# EAGLE library part 658561423040 (library WR-BTB)
WR-BTB Board to Board Characteristics Insulator flammability rating: UL94 V-0 Defined board to board distance from 5.00 mm up to 16.00 mm Available pin-counts: 64 pins (1.0 mm version) / 40, 80 or 100 pins (0.8 mm version) Contact plating: selective gold Operating temperature: -55 °C up to +85 °C Quality class: 30 mating cycles Contact resistance: 30 mΩ Working Voltage: 100 V (AC) UL approval: E323964 Applications Board-to-board connection for secure and fast data connections Defined PCB spacing In conjunction with SMT spacers or threaded spacers, a stable connection of stacked PCBs. <https://www.we-online.com/components/media/o790799v209%20WR-BTB_Gruppe.jpg> Details see: www.we-online.com/en/components/products/WR_BTB <www.we-online.com/catalog/WR_BTB/?utm_source=eagle_model&utm_medium=description_link&utm_campaign=eisos_eagle> Created by Ella 2025-05-14 2025(C) Würth Elektronik
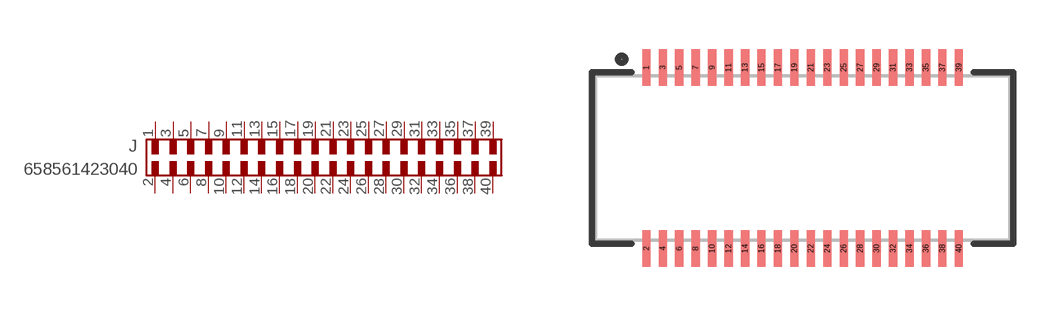
[diagram p8: symbol with the pads of 658561423040; footprint 658561423040]

Designator prefix J

## 658561423040 (DATASHEET-URL: https://www.we-online.com/redexpert/spec/658561423040?ae; GENDER: Plug; HEIGHT: 1.4mm; IR: 300mA; MOUNT: SMT; PACKAGING: Tape and Reel with Cap; PART-NUMBER: 658561423040; PINS: 40; PITCH: 0.5mm; TYPE: Vertical; VALUE: 658561423040)  [658561423040]
1  1  pas
2  2  pas
3  3  pas
4  4  pas
5  5  pas
6  6  pas
7  7  pas
8  8  pas
9  9  pas
10  10  pas
11  11  pas
12  12  pas
13  13  pas
14  14  pas
15  15  pas
16  16  pas
17  17  pas
18  18  pas
19  19  pas
20  20  pas
21  21  pas
22  22  pas
23  23  pas
24  24  pas
25  25  pas
26  26  pas
27  27  pas
28  28  pas
29  29  pas
30  30  pas
31  31  pas
32  32  pas
33  33  pas
34  34  pas
35  35  pas
36  36  pas
37  37  pas
38  38  pas
39  39  pas
40  40  pas

## Footprint 658561423040 (pad centres in mm)
WR-BTB Board to Board Pitch: 0.5mm, Plug, 40pins, SMT Height = 1.4mm
smd 0.25 x 1.1: 1 -4.75,2.75; 2 -4.75,-2.75; 3 -4.25,2.75; 4 -4.25,-2.75; 5 -3.75,2.75; 6 -3.75,-2.75; 7 -3.25,2.75; 8 -3.25,-2.75; 9 -2.75,2.75; 10 -2.75,-2.75; 11 -2.25,2.75; 12 -2.25,-2.75; 13 -1.75,2.75; 14 -1.75,-2.75; 15 -1.25,2.75; 16 -1.25,-2.75; 17 -0.75,2.75; 18 -0.75,-2.75; 19 -0.25,2.75; 20 -0.25,-2.75; 21 0.25,2.75; 22 0.25,-2.75; 23 0.75,2.75; 24 0.75,-2.75; 25 1.25,2.75; 26 1.25,-2.75; 27 1.75,2.75; 28 1.75,-2.75; 29 2.25,2.75; 30 2.25,-2.75; 31 2.75,2.75; 32 2.75,-2.75; 33 3.25,2.75; 34 3.25,-2.75; 35 3.75,2.75; 36 3.75,-2.75; 37 4.25,2.75; 38 4.25,-2.75; 39 4.75,2.75; 40 4.75,-2.75